# EAGLE library part COILCRAFT_HPH3-0950L_ (library Poe)
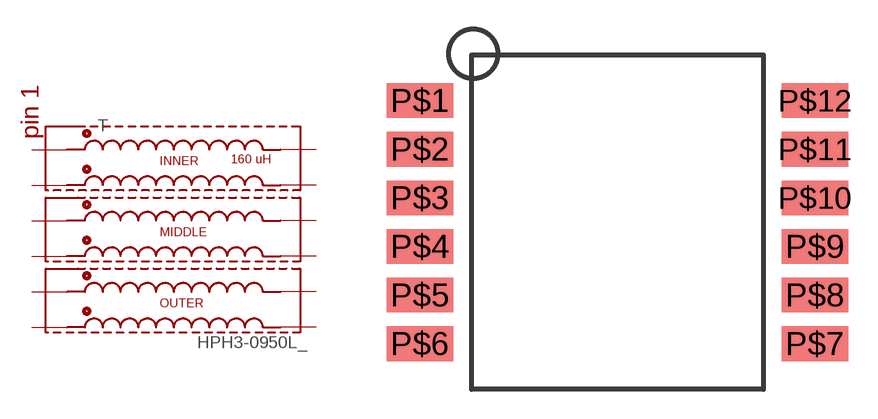
[diagram p2: symbol with the pads of COILCRAFT_C1048_PACKAGE; footprint COILCRAFT_C1048_PACKAGE]

Designator prefix T

## COILCRAFT_HPH3-0950L_  [COILCRAFT_C1048_PACKAGE]
P$1  P$1
P$2  P$2
P$3  P$3
P$4  P$4
P$5  P$5
P$6  P$6
P$7  P$7
P$8  P$8
P$9  P$9
P$10  P$10
P$11  P$11
P$12  P$12

## Footprint COILCRAFT_C1048_PACKAGE (pad centres in mm)
smd 3.429 x 1.778: P$1 -10.155,6.25; P$2 -10.155,3.75; P$3 -10.155,1.25; P$4 -10.155,-1.25; P$5 -10.155,-3.75; P$6 -10.155,-6.25; P$7 10.155,-6.25; P$8 10.155,-3.75; P$9 10.155,-1.25; P$10 10.155,1.25; P$11 10.155,3.75; P$12 10.155,6.25